# Altium footprint library AudioJack.PcbLib: 6 footprints
Each footprint in its own frame and in the unit in brackets; x right, y up, seen from the top. Pads: shape width x height; smd on the part's side, far side on the other; paste and mask are expansions set on the pad; w line width, h text height; cw(c..) or ccw(c..) is an arc to the next point about the centre after c.
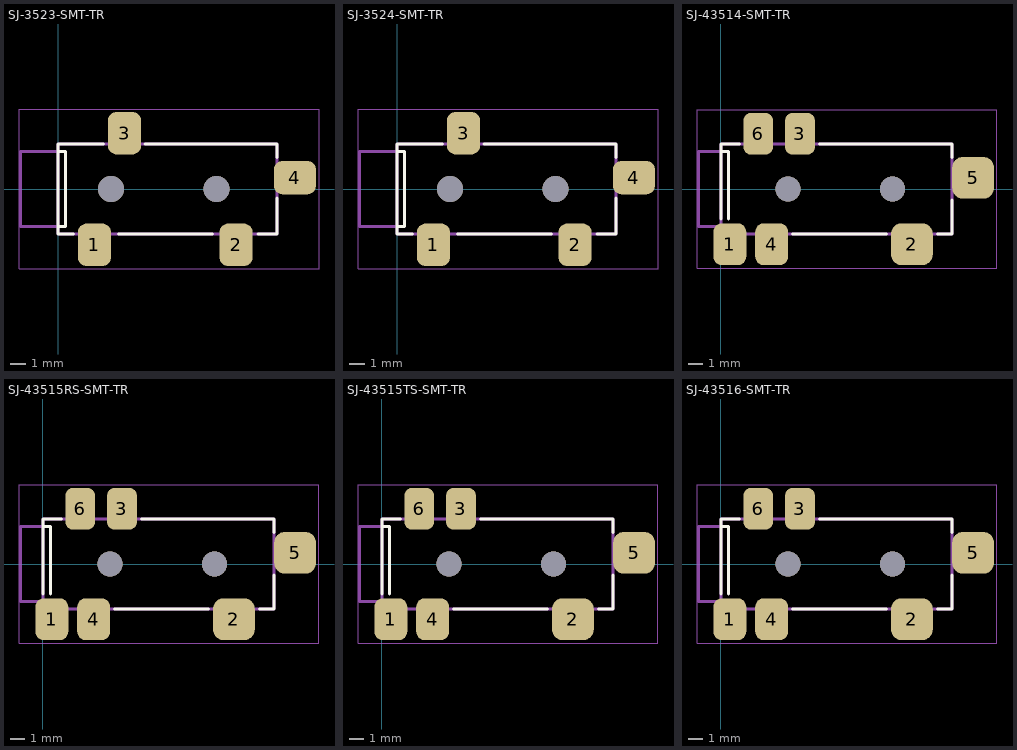
[diagram p0: the footprints below, top view; thin cyan lines are the x and y axes]

## SJ-3523-SMT-TR [mm]
pads (4):
  rrect50% 2.2x2.8 smd: 1(2.4,-3.7) 2(11.8,-3.7) 3(4.4,3.7)
  rrect50% 2.8x2.2 smd: 4(15.7,0.75)
via 10.5,0 diameter 1.7 hole 1.7
via 3.5,0 diameter 1.7 hole 1.7
Top Overlay:
  lines w0.2: 0,-2.5 0.5,-2.5 0.5,2.5 0,2.5 ; 1,-3 0,-3 0,3 3,3 ; 4,-3 10.25,-3 ; 5.75,3 14.5,3 14.5,2.1 ; 13.25,-3 14.5,-3 14.5,-0.6
Mechanical 13:
  lines w0.2: 0,-2.5 -2.5,-2.5 -2.5,2.5 0,2.5 ; 0,-3 14.5,-3 14.5,3 0,3 0,-3
Mechanical 15:
  lines w0.05: -2.6,-5.3 17.3,-5.3 17.3,5.3 -2.6,5.3 -2.6,-5.3
  text ".Designator" at 3.75,-0.5 h1.5
3D body "sj-3523-smt.stp": height 5.1, standoff -0.7, extent -2.5,-4.5 14.5,4.5

## SJ-3524-SMT-TR [mm]
pads (4):
  rrect50% 2.2x2.8 smd: 1(2.4,-3.7) 2(11.8,-3.7) 3(4.4,3.7)
  rrect50% 2.8x2.2 smd: 4(15.7,0.75)
via 10.5,0 diameter 1.7 hole 1.7
via 3.5,0 diameter 1.7 hole 1.7
Top Overlay:
  lines w0.2: 0,-2.5 0.5,-2.5 0.5,2.5 0,2.5 ; 1,-3 0,-3 0,3 3,3 ; 4,-3 10.25,-3 ; 5.75,3 14.5,3 14.5,2.1 ; 13.25,-3 14.5,-3 14.5,-0.6
Mechanical 13:
  lines w0.2: 0,-2.5 -2.5,-2.5 -2.5,2.5 0,2.5 ; 0,-3 14.5,-3 14.5,3 0,3 0,-3
Mechanical 15:
  lines w0.05: -2.6,-5.3 17.3,-5.3 17.3,5.3 -2.6,5.3 -2.6,-5.3
  text ".Designator" at 3.75,-0.5 h1.5
3D body "sj-3524-smt.stp": height 5.1, standoff -0.7, extent -2.5,-4.5 16.5,4.5

## SJ-43514-SMT-TR [mm]
pads (6):
  rrect50% 2.2x2.8 smd: 1(0.6,-3.7) 4(3.4,-3.7)
  rrect50% 2.8x2.8 smd: 2(12.8,-3.7) 5(16.9,0.75)
  rrect50% 2x2.8 smd: 3(5.3,3.7) 6(2.5,3.7)
via 11.5,0 diameter 1.7 hole 1.7
via 4.5,0 diameter 1.7 hole 1.7
Top Overlay:
  lines w0.2: 0,-2 0,3 1.25,3 ; 0,2.5 0.5,2.5 0.5,-2 ; 4.8,-3 11.1,-3 ; 6.6,3 15.5,3 15.5,2.1 ; 14.5,-3 15.5,-3 15.5,-0.75
Mechanical 13:
  lines w0.2: 0,-2.5 -1.5,-2.5 -1.5,2.5 0,2.5 ; 0,-3 15.5,-3 15.5,3 0,3 0,-3
Mechanical 15:
  lines w0.05: -1.6,-5.3 18.5,-5.3 18.5,5.3 -1.6,5.3 -1.6,-5.3
  text ".Designator" at 3.75,-0.5 h1.5
3D body "sj-43514-smt.stp": height 5.1, standoff -0.7, extent -1.7,-4.5 15.5,4.5

## SJ-43515RS-SMT-TR [mm]
pads (6):
  rrect50% 2.2x2.8 smd: 1(0.6,-3.7) 4(3.4,-3.7)
  rrect50% 2.8x2.8 smd: 2(12.8,-3.7) 5(16.9,0.75)
  rrect50% 2x2.8 smd: 3(5.3,3.7) 6(2.5,3.7)
via 4.5,0 diameter 1.7 hole 1.7
via 11.5,0 diameter 1.7 hole 1.7
Top Overlay:
  lines w0.2: 0,-2 0,3 1.25,3 ; 0,2.5 0.5,2.5 0.5,-2 ; 4.8,-3 11.1,-3 ; 6.6,3 15.5,3 15.5,2.1 ; 14.5,-3 15.5,-3 15.5,-0.75
Mechanical 13:
  lines w0.2: 0,-2.5 -1.5,-2.5 -1.5,2.5 0,2.5 ; 0,-3 0,3 15.5,3 15.5,-3 0,-3
Mechanical 15:
  lines w0.05: -1.6,-5.3 -1.6,5.3 18.5,5.3 18.5,-5.3 -1.6,-5.3
  text ".Designator" at 3.75,-0.5 h1.5
3D body "sj-43515rs-smt.stp": height 5.1, standoff -0.7, extent -1.7,-4.5 15.5,4.5

## SJ-43515TS-SMT-TR [mm]
pads (6):
  rrect50% 2.2x2.8 smd: 1(0.6,-3.7) 4(3.4,-3.7)
  rrect50% 2.8x2.8 smd: 2(12.8,-3.7) 5(16.9,0.75)
  rrect50% 2x2.8 smd: 3(5.3,3.7) 6(2.5,3.7)
via 11.5,0 diameter 1.7 hole 1.7
via 4.5,0 diameter 1.7 hole 1.7
Top Overlay:
  lines w0.2: 0,-2 0,3 1.25,3 ; 0,2.5 0.5,2.5 0.5,-2 ; 4.8,-3 11.1,-3 ; 6.6,3 15.5,3 15.5,2.1 ; 14.5,-3 15.5,-3 15.5,-0.75
Mechanical 13:
  lines w0.2: 0,-2.5 -1.5,-2.5 -1.5,2.5 0,2.5 ; 0,-3 15.5,-3 15.5,3 0,3 0,-3
Mechanical 15:
  lines w0.05: -1.6,-5.3 18.5,-5.3 18.5,5.3 -1.6,5.3 -1.6,-5.3
  text ".Designator" at 3.75,-0.5 h1.5
3D body "sj-43515ts-smt.stp": height 5.1, standoff -0.7, extent -1.7,-4.5 17.5,4.5

## SJ-43516-SMT-TR [mm]
pads (6):
  rrect50% 2.2x2.8 smd: 1(0.6,-3.7) 4(3.4,-3.7)
  rrect50% 2.8x2.8 smd: 2(12.8,-3.7) 5(16.9,0.75)
  rrect50% 2x2.8 smd: 3(5.3,3.7) 6(2.5,3.7)
via 11.5,0 diameter 1.7 hole 1.7
via 4.5,0 diameter 1.7 hole 1.7
Top Overlay:
  lines w0.2: 0,-2 0,3 1.25,3 ; 0,2.5 0.5,2.5 0.5,-2 ; 4.8,-3 11.1,-3 ; 6.6,3 15.5,3 15.5,2.1 ; 14.5,-3 15.5,-3 15.5,-0.75
Mechanical 13:
  lines w0.2: 0,-2.5 -1.5,-2.5 -1.5,2.5 0,2.5 ; 0,-3 15.5,-3 15.5,3 0,3 0,-3
Mechanical 15:
  lines w0.05: -1.6,-5.3 18.5,-5.3 18.5,5.3 -1.6,5.3 -1.6,-5.3
  text ".Designator" at 3.75,-0.5 h1.5
3D body "sj-43516-smt.stp": height 5.1, standoff -0.7, extent -1.7,-4.5 17.5,4.5